# Altium schematic symbol library LT3466.SchLib: 1 symbol
Pins are listed as number, name and electrical type; pins without a type are passive.

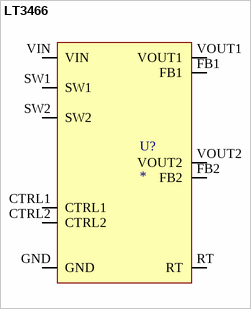
[diagram p0: symbol LT3466]

## LT3466
designator U?
Dual Full Function White LED Step-Up Converter with Built-In Schottky Diodes; Part No.: LT3466; Vendor: Linear Technology; Price Est.: $3.14; Manufacturer: Linear Technology
footprint DFN-10 3mmx3mm (DFN 10-pin 3mmx3mm Linear); pin to pad CTRL1>9 CTRL2>7 FB1>10 FB2>6 GND>11 RT>8 SW1>2 SW2>4 VIN>3 VOUT1>1 VOUT2>5
footprint TSSOP-16 EP (Linear Technology FE Package 16-Lead Plastic TSSOP 4.4x5.1 Exposed Pad (BC)); pin to pad CTRL1>14 CTRL2>11 FB1>15 FB2>10 GND>1+8+9+16+17 RT>12 SW1>4 SW2>6 VIN>5 VOUT1>3 VOUT2>7
pins: CTRL1, CTRL2, FB1, FB2, GND, RT, SW1, SW2, VIN, VOUT1, VOUT2